# Altium schematic symbol library 691 242 710 0xx.SchLib: 7 symbols
Pins are listed as number, name and electrical type; pins without a type are passive.

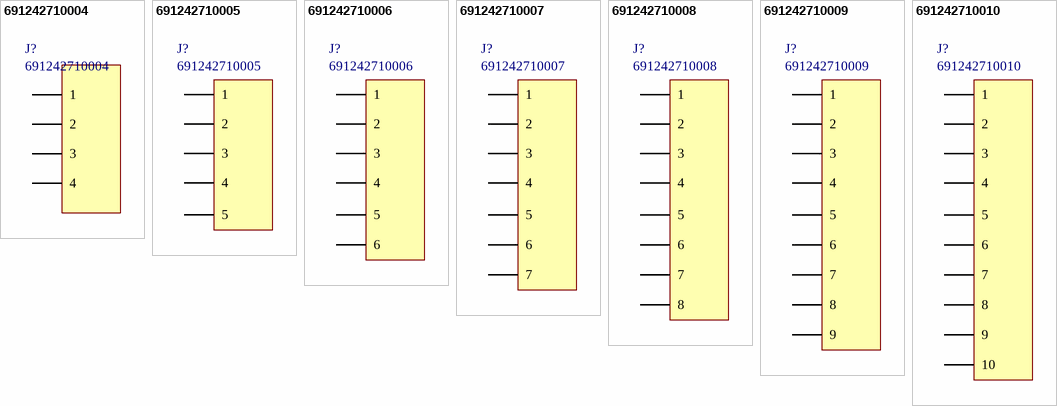
[diagram p0: symbols 691242710004 to 691242710010]

## 691242710004
designator J?
Horizontal Cable Entry with Rising Cage Clamp, Serie 2427 - 5.00 mm; Manufacturer: Wurth Elektronik; ComponentLink1 Description: Manufacturer; ComponentLink2 Description: Datasheet; NoPins: 4; ComponentLink1 URL: http://www.we-online.com; ComponentLink2 URL: http://katalog.we-online.de/em/datasheet/6912427100xx.pdf; Created By: Baojun Chen; Created Date: 26.Aug.2015; PartNo: 691242710004
footprint 691242710004 (Serie 2427 - 5.00 mm_4 pins)
pins: 1, 2, 3, 4

## 691242710005
designator J?
Horizontal Cable Entry with Rising Cage Clamp, Serie 2427 - 5.00 mm; Manufacturer: Wurth Elektronik; ComponentLink1 Description: Manufacturer; ComponentLink2 Description: Datasheet; NoPins: 5; ComponentLink1 URL: http://www.we-online.com; ComponentLink2 URL: http://katalog.we-online.de/em/datasheet/6912427100xx.pdf; Created By: Baojun Chen; Created Date: 26.Aug.2015; PartNo: 691242710005
footprint 691242710005 (Serie 2427 - 5.00 mm_5 pins)
pins: 1, 2, 3, 4, 5

## 691242710006
designator J?
Horizontal Cable Entry with Rising Cage Clamp, Serie 2427 - 5.00 mm; Manufacturer: Wurth Elektronik; ComponentLink1 Description: Manufacturer; ComponentLink2 Description: Datasheet; NoPins: 6; ComponentLink1 URL: http://www.we-online.com; ComponentLink2 URL: http://katalog.we-online.de/em/datasheet/6912427100xx.pdf; Created By: Baojun Chen; Created Date: 26.Aug.2015; PartNo: 691242710006
footprint 691242710006 (Serie 2427 - 5.00 mm_6 pins)
pins: 1, 2, 3, 4, 5, 6

## 691242710007
designator J?
Horizontal Cable Entry with Rising Cage Clamp, Serie 2427 - 5.00 mm; Manufacturer: Wurth Elektronik; ComponentLink1 Description: Manufacturer; ComponentLink2 Description: Datasheet; NoPins: 7; ComponentLink1 URL: http://www.we-online.com; ComponentLink2 URL: http://katalog.we-online.de/em/datasheet/6912427100xx.pdf; Created By: Baojun Chen; Created Date: 26.Aug.2015; PartNo: 691242710007
footprint 691242710007 (Serie 2427 - 5.00 mm_7 pins)
pins: 1, 2, 3, 4, 5, 6, 7

## 691242710008
designator J?
Horizontal Cable Entry with Rising Cage Clamp, Serie 2427 - 5.00 mm; Manufacturer: Wurth Elektronik; ComponentLink1 Description: Manufacturer; ComponentLink2 Description: Datasheet; NoPins: 8; ComponentLink1 URL: http://www.we-online.com; ComponentLink2 URL: http://katalog.we-online.de/em/datasheet/6912427100xx.pdf; Created By: Baojun Chen; Created Date: 26.Aug.2015; PartNo: 691242710008
footprint 691242710008 (Serie 2427 - 5.00 mm_8 pins)
pins: 1, 2, 3, 4, 5, 6, 7, 8

## 691242710009
designator J?
Horizontal Cable Entry with Rising Cage Clamp, Serie 2427 - 5.00 mm; Manufacturer: Wurth Elektronik; ComponentLink1 Description: Manufacturer; ComponentLink2 Description: Datasheet; NoPins: 9; ComponentLink1 URL: http://www.we-online.com; ComponentLink2 URL: http://katalog.we-online.de/em/datasheet/6912427100xx.pdf; Created By: Baojun Chen; Created Date: 26.Aug.2015; PartNo: 691242710009
footprint 691242710009 (Serie 2427 - 5.00 mm_9 pins)
pins: 1, 2, 3, 4, 5, 6, 7, 8, 9

## 691242710010
designator J?
Horizontal Cable Entry with Rising Cage Clamp, Serie 2427 - 5.00 mm; Manufacturer: Wurth Elektronik; ComponentLink1 Description: Manufacturer; ComponentLink2 Description: Datasheet; NoPins: 10; ComponentLink1 URL: http://www.we-online.com; ComponentLink2 URL: http://katalog.we-online.de/em/datasheet/6912427100xx.pdf; Created By: Baojun Chen; Created Date: 26.Aug.2015; PartNo: 691242710010
footprint 691242710010 (Serie 2427 - 5.00 mm_10 pins)
pins: 1, 2, 3, 4, 5, 6, 7, 8, 9, 10